# EAGLE library part INTERDIGITAL_FILTER_5TH_ORDER (library Alex_RF)
Generic symbol for 5-th order interdigital filter
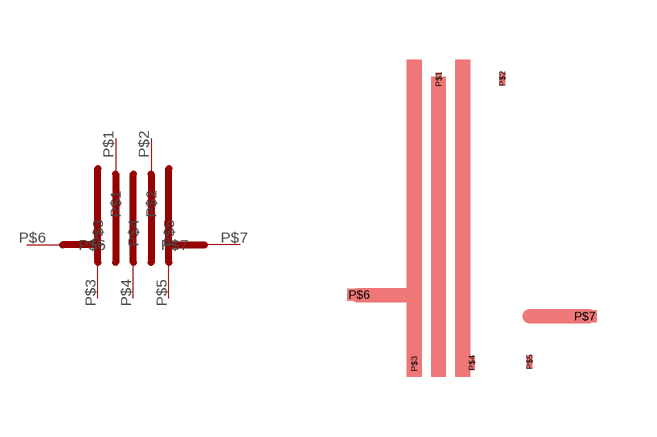
[diagram p0: symbol with the pads of JLC7628_4900-5500_FILTER; footprint JLC7628_4900-5500_FILTER]

Designator prefix FL

## INTERDIGITAL_FILTER_5TH_ORDER  [JLC7628_4900-5500_FILTER]
P$1  P$1
P$2  P$2
P$3  P$3
P$4  P$4
P$5  P$5
P$6  P$6
P$7  P$7

## Footprint JLC7628_4900-5500_FILTER (pad centres in mm)
FILTER na 7628 4 warstwowy laminat, 1.6 mm, band: 4.9 GHz - 5.5 GHz
smd 0.152 x 0.305: P$1 0.79,7.44; P$2 2.38,7.45; P$3 0.18,0.32; P$4 1.62,0.34; P$5 3.06,0.37
smd 0.61 x 0.305: P$6 -1.195,2.05; P$7 4.445,1.51